# EAGLE library part TML052XX (library noah)
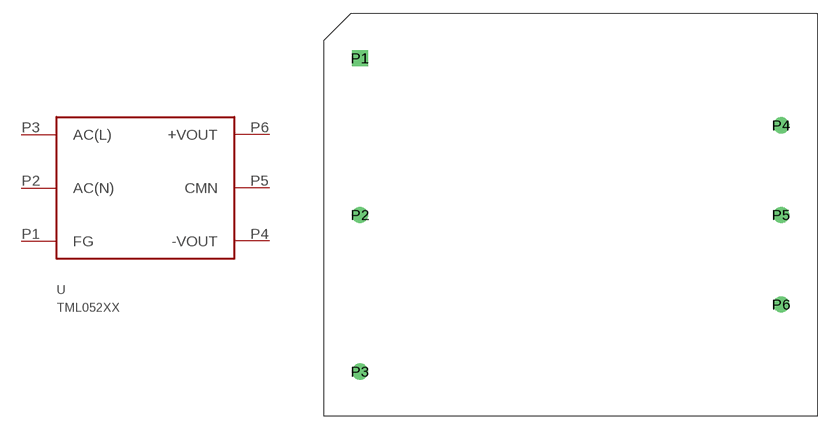
[diagram p41: symbol with the pads of TML5; footprint TML5]

Designator prefix -

## TML052XX  [TML5]
P1  FG
P2  AC(N)
P3  AC(L)
P4  -VOUT
P5  CMN
P6  +VOUT

## Footprint TML5 (pad centres in mm)
drill 1.2 square: P1 0,17.5
drill 1.2: P2 0,0; P3 0,-17.5; P4 47,10; P5 47,0; P6 47,-10